# EAGLE library part 690-004-660-023 (library con-usb)
USB TYPE B VERTICAL EDAC Inc.
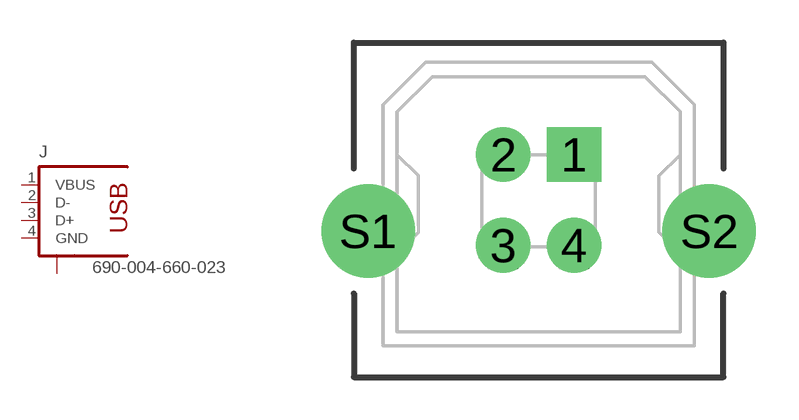
[diagram p11: symbol with the pads of 690-004-660-023; footprint 690-004-660-023]

Designator prefix J

## 690-004-660-023  [690-004-660-023]
1  VBUS  pas
2  D-  pas
3  D+  pas
4  GND  pas
S1  S1  pas
S2  S2  pas

## Footprint 690-004-660-023 (pad centres in mm)
USB TYPE B VERTICAL EDAC Inc.
drill 1.016 pad 1.93 square: 1 1.25,0
drill 1.016 pad 1.93: 2 -1.25,0; 3 -1.25,-3.2; 4 1.25,-3.2
drill 2.286: S1 -6.02,-2.7; S2 6.02,-2.7